# Altium schematic symbol library CAP_CER_0.1uF_35V_0805.SchLib: 1 symbol
Pins are listed as number, name and electrical type; pins without a type are passive.

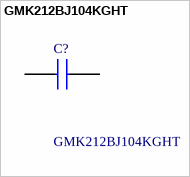
[diagram p0: symbol GMK212BJ104KGHT]

## GMK212BJ104KGHT
designator C?
CERAMIC CAPACITORS  [MLCC (High dielectric type) for Automotive (BODY & CHASSIS, INFOTAINMENT) Applications]  Multilayer Ceramic Capacitors MLCC - SMD/SMT 0.1uF 35V X5R +/-10% 0805 AEC-Q200; Manufacturer_Name: TAIYO YUDEN; Geometry.Height: 1.35mm; Manufacturer_Part_Number: GMK212BJ104KGHT; Mouser Part Number: 963-GMK212BJ104KGHT; Mouser Price/Stock: https://www.mouser.co.uk/ProductDetail/Taiyo-Yuden/GMK212BJ104KGHT?qs=CNQs48zzdnrsv%2FdZilYhjQ%3D%3D; Arrow Part Number: *; Arrow Price/Stock: *; Datasheet Link: https://datasheet.datasheetarchive.com/originals/distributors/Datasheets-DGA20/25674.pdf
footprint CAPC2012X135N
pins: 1, 2